# Altium footprint library jp_2021.3.10.PcbLib: 2 footprints
Each footprint in its own frame and in the unit in brackets; x right, y up, seen from the top. Pads: shape width x height; smd on the part's side, far side on the other; paste and mask are expansions set on the pad; w line width, h text height; cw(c..) or ccw(c..) is an arc to the next point about the centre after c.
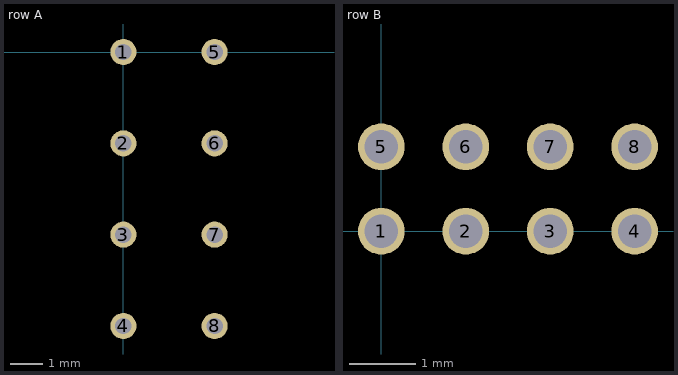
[diagram p0: the footprints below, top view; thin cyan lines are the x and y axes]

## row A [mm]
pads (8):
  round 0.8 hole 0.5: 1(0,0) 2(0,-2.8) 3(0,-5.6) 4(0,-8.4) 5(2.8,0) 6(2.8,-2.8) 7(2.8,-5.6) 8(2.8,-8.4)

## row B [mm]
pads (8):
  round 0.7 hole 0.5 mask+0.102: 1(0,0) 2(1.27,0) 3(2.54,0) 4(3.81,0) 5(0,1.27) 6(1.27,1.27) 7(2.54,1.27) 8(3.81,1.27)